# EAGLE library part SSD1306_128X64_LCD (library open_hw_sockets)
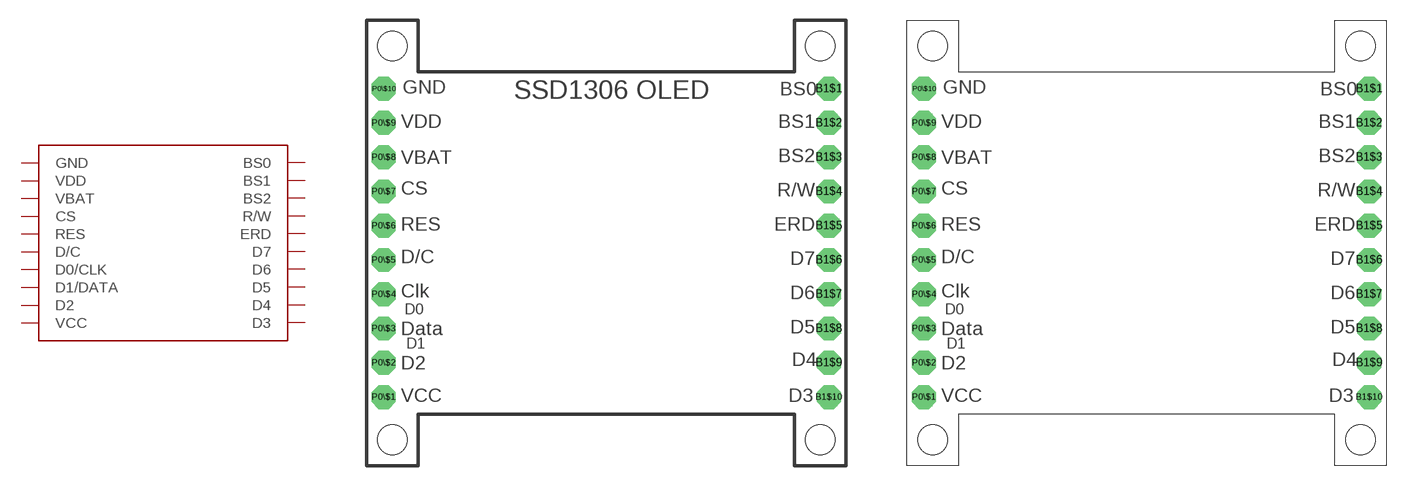
[diagram p4: symbol with the pads of SSD1306_128X64_LCD; footprints SSD1306_128X64_LCD, SSD1306_128X64_LCD_TOP]

Designator prefix -

## SSD1306_128X64_LCD  [SSD1306_128X64_LCD]
B1$1  BS0  in
B1$2  BS1  in
B1$3  BS2  in
B1$4  R/W  in
B1$5  ERD  in
B1$6  D7
B1$7  D6
B1$8  D5
B1$9  D4
B1$10  D3
P0\$1  VCC  pwr
P0\$2  D2
P0\$3  D1/DATA
P0\$4  D0/CLK
P0\$5  D/C  in
P0\$6  RES  in
P0\$7  CS  in
P0\$8  VBAT  pwr
P0\$9  VDD  pwr
P0\$10  GND  pwr

## SSD1306_128X64_LCDTOP  [SSD1306_128X64_LCD_TOP]
Pads as for SSD1306_128X64_LCD

## SSD1306_128X64_LCDBOT  [SSD1306-128X64_LCD_BOT]
Pads as for SSD1306_128X64_LCD

## Footprint SSD1306_128X64_LCD (pad centres in mm)
drill 1.016 pad 1.778 octagon: B1$1 34.29,24.13; B1$2 34.29,21.59; B1$3 34.29,19.05; B1$4 34.29,16.51; B1$5 34.29,13.97; B1$6 34.29,11.43; B1$7 34.29,8.89; B1$8 34.29,6.35; B1$9 34.29,3.81; B1$10 34.29,1.27; P0\$1 1.27,1.27; P0\$2 1.27,3.81; P0\$3 1.27,6.35; P0\$4 1.27,8.89; P0\$5 1.27,11.43; P0\$6 1.27,13.97; P0\$7 1.27,16.51; P0\$8 1.27,19.05; P0\$9 1.27,21.59; P0\$10 1.27,24.13
hole 2.2 at 33.655,-1.905
hole 2.2 at 1.905,-1.905
hole 2.2 at 33.655,27.305
hole 2.2 at 1.905,27.305

## Footprint SSD1306_128X64_LCD_TOP (pad centres in mm)
drill 1.016 pad 1.778 octagon: B1$1 34.29,24.13; B1$2 34.29,21.59; B1$3 34.29,19.05; B1$4 34.29,16.51; B1$5 34.29,13.97; B1$6 34.29,11.43; B1$7 34.29,8.89; B1$8 34.29,6.35; B1$9 34.29,3.81; B1$10 34.29,1.27; P0\$1 1.27,1.27; P0\$2 1.27,3.81; P0\$3 1.27,6.35; P0\$4 1.27,8.89; P0\$5 1.27,11.43; P0\$6 1.27,13.97; P0\$7 1.27,16.51; P0\$8 1.27,19.05; P0\$9 1.27,21.59; P0\$10 1.27,24.13
hole 2.2 at 33.655,-1.905
hole 2.2 at 1.905,-1.905
hole 2.2 at 33.655,27.305
hole 2.2 at 1.905,27.305

## Footprint SSD1306-128X64_LCD_BOT (pad centres in mm)
drill 1.016 pad 1.778 octagon: B1$1 34.29,24.13; B1$2 34.29,21.59; B1$3 34.29,19.05; B1$4 34.29,16.51; B1$5 34.29,13.97; B1$6 34.29,11.43; B1$7 34.29,8.89; B1$8 34.29,6.35; B1$9 34.29,3.81; B1$10 34.29,1.27; P0\$1 1.27,1.27; P0\$2 1.27,3.81; P0\$3 1.27,6.35; P0\$4 1.27,8.89; P0\$5 1.27,11.43; P0\$6 1.27,13.97; P0\$7 1.27,16.51; P0\$8 1.27,19.05; P0\$9 1.27,21.59; P0\$10 1.27,24.13
hole 2.2 at 33.655,-1.905
hole 2.2 at 1.905,-1.905
hole 2.2 at 33.655,27.305
hole 2.2 at 1.905,27.305